# Altium footprint library Drossel.PcbLib: 60 footprints (part 1 of 4)
Each footprint in its own frame and in the unit in brackets; x right, y up, seen from the top. Pads: shape width x height; smd on the part's side, far side on the other; paste and mask are expansions set on the pad; w line width, h text height; cw(c..) or ccw(c..) is an arc to the next point about the centre after c.
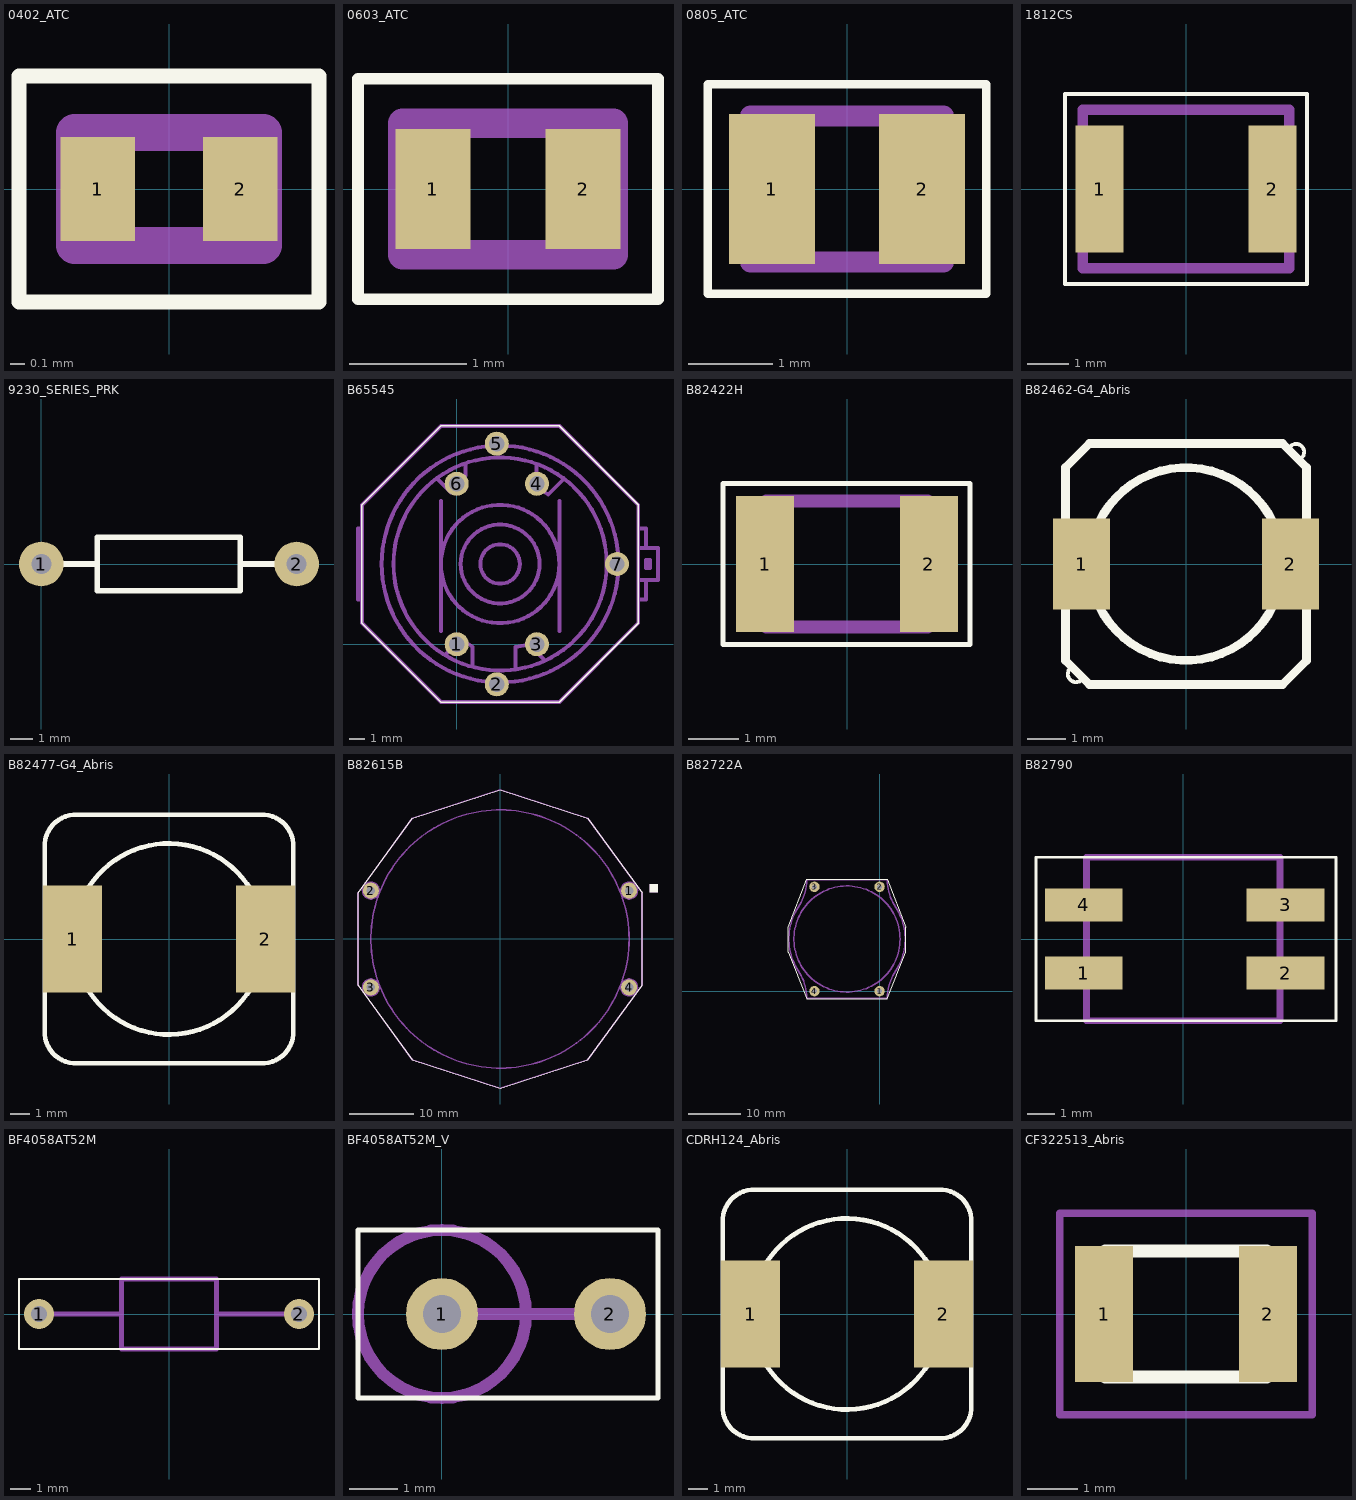
[diagram p0: the footprints below, top view; thin cyan lines are the x and y axes]

## 0402_ATC [mm]
pads (2):
  rect 0.5x0.7 smd: 1(-0.48,0) 2(0.48,0)
Top Overlay:
  lines w0.1: -1.01,-0.76 1.01,-0.76 1.01,0.76 -1.01,0.76 -1.01,-0.76
Mechanical 1:
  lines w0.25: -0.635,-0.38 0.635,-0.38 0.635,0.38 -0.635,0.38 -0.635,-0.38

## 0603_ATC [mm]
pads (2):
  rect 0.64x1.02 smd: 1(-0.64,0) 2(0.64,0)
Top Overlay:
  lines w0.1: -1.28,-0.94 1.28,-0.94 1.28,0.94 -1.28,0.94 -1.28,-0.94
Mechanical 1:
  lines w0.25: -0.9,-0.56 0.9,-0.56 0.9,0.56 -0.9,0.56 -0.9,-0.56

## 0805_ATC [mm]
pads (2):
  rect 1.02x1.78 smd: 1(-0.89,0) 2(0.89,0)
Top Overlay:
  lines w0.1: -1.65,-1.245 1.65,-1.245 1.65,1.245 -1.65,1.245 -1.65,-1.245
Mechanical 1:
  lines w0.25: -1.145,-0.865 1.145,-0.865 1.145,0.865 -1.145,0.865 -1.145,-0.865

## 1812CS [mm]
pads (2):
  rect 1.15x3.05 smd: 1(-2.075,0) 2(2.075,0)
Top Overlay:
  lines w0.1: -2.9,-2.28 2.9,-2.28 2.9,2.28 -2.9,2.28 -2.9,-2.28
Mechanical 1:
  lines w0.25: -2.475,-1.905 2.475,-1.905 2.475,1.905 -2.475,1.905 -2.475,-1.905

## 9230_SERIES_PRK [mm]
pads (2):
  round 2 hole 0.9: 1(0,0) 2(11.43,0)
Top Overlay:
  lines w0.1: -0.635,0 0,0 ; 0,-0.635 0,0.635 ; 11.4,0 12.065,0 ; 11.43,-0.635 11.43,0.635
  lines w0.254: 0,0 2.5,0 ; 8.9,0 11.4,0 ; 2.5,-1.2 8.9,-1.2 8.9,1.2 2.5,1.2 2.5,-1.2

## B65545 [mil]
pads (7):
  round 60 hole 38: 1(0,0) 2(100,-100) 3(200,0) 4(200,400) 5(100,500) 6(0,400) 7(400,200)
Top Overlay:
  lines w3.94: -236.22,52.36 -39.37,-144.49 255.91,-144.49 452.76,52.36 452.76,347.64 255.91,544.49 -39.37,544.49 -236.22,347.64 -236.22,52.36
Mechanical 1:
  lines w9.84: -236.22,111.42 -246.06,111.42 -246.06,200 -246.06,288.58 -236.22,288.58 ; -48.72,413.51 -13.92,378.71 20.88,385.67 21.65,450 ; -39.37,32.68 -39.37,357.48 ; -29.53,-26.38 9.84,12.99 39.37,-6.69 39.37,-55.91 ; 146.44,-63.01 146.44,-7.33 181.24,-0.37 220.47,-40.16 ; 198.82,448.03 198.82,392.91 228.35,373.23 267.72,412.6 ; 255.91,32.68 255.91,357.48 ; 452.76,111.42 472.44,111.42 472.44,160.63 ; 452.76,160.63 501.97,160.63 501.97,200 501.97,239.37 452.76,239.37 ; 452.76,288.58 472.44,288.58 472.44,239.37 ; -236.22,52.36 -39.37,-144.49 255.91,-144.49 452.76,52.36 452.76,347.64 255.91,544.49 -39.37,544.49 -236.22,347.64 -236.22,52.36 ; -187.01,200 cw(c108.27,200) 403.54,200 cw(c108.27,200) -187.01,200 ; -157.48,200 cw(c108.27,200) 374.02,200 cw(c108.27,200) -157.48,200 ; -39.37,200 cw(c108.27,200) 255.91,200 cw(c108.27,200) -39.37,200 ; 9.84,200 ccw(c108.27,200) 206.69,200 ccw(c108.27,200) 9.84,200 ; 59.06,200 ccw(c108.27,200) 157.48,200 ccw(c108.27,200) 59.06,200 ; 472.44,190.16 472.44,209.84 482.28,209.84 482.28,190.16 472.44,190.16
  text "GND" at 348.71,144.38 h31.25

## B82422H [mm]
pads (2):
  rect 1.15x2.7 smd: 1(-1.625,0) 2(1.625,0)
Top Overlay:
  lines w0.1: -2.46,-1.6 2.44,-1.6 2.44,1.6 -2.46,1.6 -2.46,-1.6
Mechanical 1:
  lines w0.254: -1.6,-1.25 1.6,-1.25 1.6,1.25 -1.6,1.25 -1.6,-1.25

## B82462-G4_Abris [mm]
pads (2):
  rect 1.5x2.4 smd: 1(-2.75,0) 2(2.75,0)
Top Overlay:
  circle w0.229: c0,0 r2.54
  lines w0.1: -3.05,-2.75 ccw(c-2.9,-2.9) -2.75,-3.05 ; 2.75,3.1 cw(c2.9,2.95) 3.05,2.8
  lines w0.229: -3.175,-2.54 -2.54,-3.175 2.54,-3.175 3.175,-2.54 3.175,2.54 2.54,3.175 -2.54,3.175 -3.175,2.54 -3.175,-2.54
Mechanical 1:
  lines w0.15: -3.2,-1.3 -3.2,-2.5 -2.5,-3.2 2.5,-3.2 3.2,-2.5 3.2,-1.3 ; -3.2,1.3 -3.2,2.5 -2.5,3.2 2.5,3.2 3.2,2.5 3.2,1.3 ; -2.2,-1.301 ccw(c0,0) 2.2,-1.301 ; -2.2,1.301 cw(c0,0) 2.2,1.301

## B82477-G4_Abris [mm]
pads (2):
  rect 3.1x5.6 smd: 1(-5.05,0) 2(5.05,0)
Top Overlay:
  circle w0.25: c0,0 r5
  lines w0.25: -6.5,-5 ccw(c-4.875,-4.875) -5,-6.5 5,-6.5 ccw(c4.875,-4.875) 6.5,-5 6.5,5 ccw(c4.875,4.875) 5,6.5 -5,6.5 ccw(c-4.875,4.875) -6.5,5 -6.5,-5
Mechanical 1:
  lines w0.15: -6.5,-3.1 -6.5,-5 ccw(c-4.875,-4.875) -5,-6.5 5,-6.5 ccw(c4.875,-4.875) 6.5,-5 6.5,-3.1 ; -6.5,3.1 -6.5,5 cw(c-4.875,4.875) -5,6.5 5,6.5 cw(c4.875,4.875) 6.5,5 6.5,3.1 ; -3.986,2.985 cw(c0,0.1) 3.986,2.985 ; -3.898,-3.102 ccw(c0,-0.1) 3.898,-3.102

## B82615B [mm]
pads (4):
  round 2.5 hole 1.3: 1(20,7.5) 2(-20,7.5) 3(-20,-7.5) 4(20,-7.5)
Top Overlay:
  region: 23.22,7.225 24.47,7.225 24.47,8.475 23.22,8.475
  lines w0.1: -22,-7.15 -13.597,-18.716 0,-23.134 13.596,-18.716 22,-7.15 22,7.146 13.596,18.712 0,23.13 -13.597,18.712 -22,7.146 -22,-7.15
Mechanical 1:
  circle w0.25: c0,-0.002 r20
  circle w0.25: c20,7.498 r1.3
  circle w0.25: c20,-7.502 r1.3
  circle w0.25: c-20,7.498 r1.3
  circle w0.25: c-20,-7.502 r1.3
  region: 23.22,7.225 24.47,7.225 24.47,8.475 23.22,8.475
  lines w0.25: -22,-7.15 -13.597,-18.716 0,-23.134 13.596,-18.716 22,-7.15 22,7.146 13.596,18.712 0,23.13 -13.597,18.712 -22,7.146 -22,-7.15

## B82722A [mm]
pads (4):
  round 2 hole 1: 1(0,0) 2(0,20) 3(-12.5,20) 4(-12.5,0)
Top Overlay:
  lines w0.1: -17.5,7.5 -14,-1.5 1.5,-1.5 5,7.5 5,12.25 1.5,21.5 -14,21.5 -17.5,12.25 -17.5,7.5
Mechanical 1:
  circle w0.25: c-6.252,9.999 r10.186
  circle w0.25: c-12.502,19.999 r0.5
  circle w0.25: c-12.502,-0.001 r0.5
  circle w0.25: c-0.002,19.999 r0.5
  circle w0.25: c-0.002,-0.001 r0.5
  lines w0.25: -15.603,3.926 cw(c-6.252,9.999) -15.593,16.088 ; -15.597,16.081 ccw(c-24.465,21.84) -13.957,20.661 ; -15.587,3.901 cw(c-24.465,-1.842) -13.955,-0.682 ; -13.956,-0.676 -13.956,-1.351 -6.252,-1.351 1.452,-1.351 1.452,-0.676 ; -13.956,20.674 -13.956,21.349 -6.252,21.349 1.452,21.349 1.452,20.674 ; 1.451,20.679 ccw(c11.961,21.84) 3.083,16.096 ; 1.453,-0.664 cw(c11.961,-1.842) 3.093,3.917 ; 3.089,3.91 ccw(c-6.252,9.999) 3.099,16.072

## B82790 [mm]
pads (4):
  rect 2.85x1.2 smd: 1(-3.65,-1.25) 2(3.75,-1.25) 3(3.75,1.25) 4(-3.65,1.25)
Top Overlay:
  lines w0.1: -5.4,-3 5.6,-3 5.6,3 -5.4,3 -5.4,-3
Mechanical 1:
  lines w0.25: -3.55,-3 3.55,-3 3.55,3 -3.55,3 -3.55,-3

## BF4058AT52M [mm]
pads (2):
  round 1.5 hole 0.8: 1(-6.5,0) 2(6.5,0)
Top Overlay:
  lines w0.1: -7.5,-1.75 7.5,-1.75 7.5,1.75 -7.5,1.75 -7.5,-1.75
Mechanical 1:
  lines w0.25: -6.5,0 -2.375,0 ; 2.375,0 6.5,0 ; -2.375,0 -2.375,-1.75 2.375,-1.75 2.375,1.75 -2.375,1.75 -2.375,0

## BF4058AT52M_V [mm]
pads (2):
  round 1.5 hole 0.8: 1(0,0) 2(3.5,0)
Top Overlay:
  lines w0.1: -1.75,-1.75 4.5,-1.75 4.5,1.75 -1.75,1.75 -1.75,-1.75
Mechanical 1:
  lines w0.25: 0,0 3.5,0 ; 0,-1.75 cw(c0,0) 0,1.75 cw(c0,0) 0,-1.75

## CDRH124_Abris [mm]
pads (2):
  rect 3.1x5.6 smd: 1(-5.05,0) 2(5.05,0)
Top Overlay:
  circle w0.25: c0,0 r5
  lines w0.25: -6.5,-5 ccw(c-4.875,-4.875) -5,-6.5 5,-6.5 ccw(c4.875,-4.875) 6.5,-5 6.5,5 ccw(c4.875,4.875) 5,6.5 -5,6.5 ccw(c-4.875,4.875) -6.5,5 -6.5,-5
Mechanical 1:
  lines w0.15: -6.5,-3.1 -6.5,-5 ccw(c-4.875,-4.875) -5,-6.5 5,-6.5 ccw(c4.875,-4.875) 6.5,-5 6.5,-3.1 ; -6.5,3.1 -6.5,5 cw(c-4.875,4.875) -5,6.5 5,6.5 cw(c4.875,4.875) 6.5,5 6.5,3.1 ; -3.986,2.985 cw(c0,0.1) 3.986,2.985 ; -3.898,-3.102 ccw(c0,-0.1) 3.898,-3.102

## CF322513_Abris [mm]
pads (2):
  rect 1.15x2.7 smd: 1(-1.625,0) 2(1.625,0)
Top Overlay:
  lines w0.254: -1.6,-1.25 -1.6,1.25 1.6,1.25 1.6,-1.25 -1.6,-1.25
Mechanical 1:
  lines w0.15: -2.5,-2 2.5,-2 2.5,2 -2.5,2 -2.5,-2